# Altium integrated library ESB-3353A.IntLib: 2 symbols
Pins are listed as number, name and electrical type; pins without a type are passive.

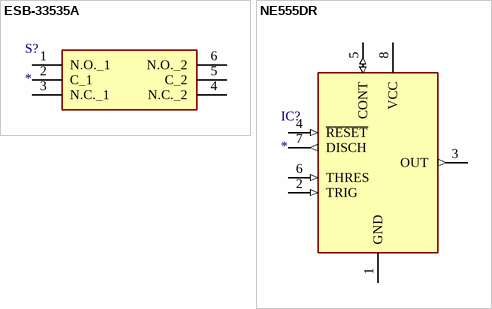
[diagram p0: symbols ESB-33535A to NE555DR]

## ESB-33535A
designator S?
Switch; Manufacturer_Name: Panasonic; Manufacturer_Part_Number: ESB-33535A; Datasheet Link: https://industrial.panasonic.com/ac/cdn/e/control/switch/push/catalog/sw_pu_eng_esb33.pdf; Height: 12.5mm; Arrow Part Number: ESB-33535A; Arrow Price/Stock: https://www.arrow.com/en/products/esb-33535a/panasonic; Mouser Part Number: 667-ESB-33535A; Mouser Price/Stock: https://www.mouser.co.uk/ProductDetail/Panasonic/ESB-33535A?qs=bhLVwANLX8NKx9UGCqkFcQ%3D%3D
footprint ESB33535A
pins: 1 N.O._1, 2 C_1, 3 N.C._1, 4 N.C._2, 5 C_2, 6 N.O._2

## NE555DR
designator IC?
Integrated Circuit; Manufacturer_Name: Texas Instruments; Manufacturer_Part_Number: NE555DR; Datasheet Link: http://www.ti.com/lit/ds/symlink/ne555.pdf; Height: 1.75mm; Mouser Part Number: 595-NE555DR; Mouser Price/Stock: https://www.mouser.com/Search/Refine.aspx?Keyword=595-NE555DR; RS Part Number: 1218414; RS Price/Stock: http://uk.rs-online.com/web/p/products/1218414
footprint SOIC127P600X175-8N
pins: 1 GND (power), 2 TRIG (in), 3 OUT (out), 4 ~{RESET} (in), 5 CONT (io), 6 THRES (in), 7 DISCH (out), 8 VCC (power)